# EAGLE library part ADNS2620 (library paparazzi3)
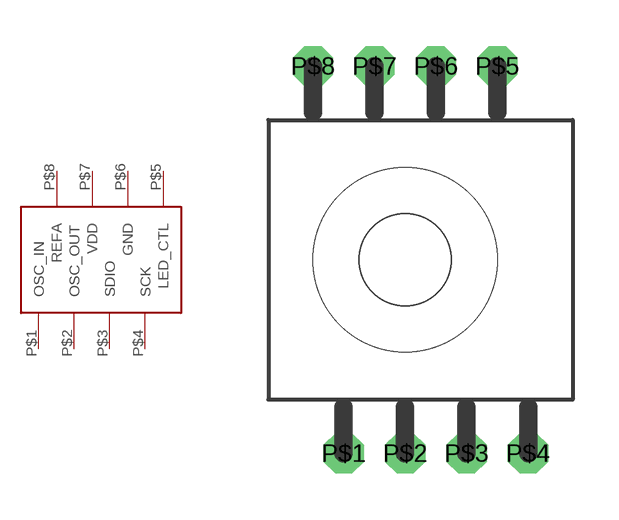
[diagram p46: symbol with the pads of ADNS2620; footprint ADNS2620]

Designator prefix -

## ADNS2620  [ADNS2620]
P$1  OSC_IN
P$2  OSC_OUT
P$3  SDIO
P$4  SCK
P$5  LED_CTL
P$6  GND
P$7  VDD
P$8  REFA

## Footprint ADNS2620 (pad centres in mm)
drill 0.8 octagon: P$1 0,0; P$2 2,0; P$3 4,0; P$4 6,0; P$5 5,12.6; P$6 3,12.6; P$7 1,12.6; P$8 -1,12.6
hole 3 at 2,6.3